# EAGLE library part ICE40UL1K-SWG16ITR1K (library FPGA)
UltraLite Series 1248 LUTs 10 I/O 56 kBit RAM 1.2V Surface Mount FPGA - WLCSP-16
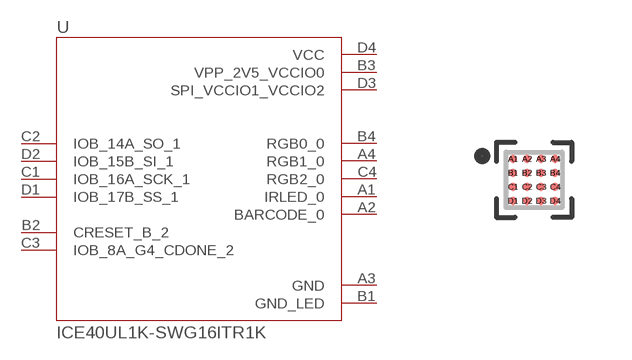
[diagram p2: symbol with the pads of BGA16N35P4X4_140X140X49N; footprint BGA16N35P4X4_140X140X49N]

Designator prefix U

## ICE40UL1K-SWG16ITR1K (AVAILABILITY: Unavailable; DESCRIPTION: UltraLite Series 1248 LUTs 10 I/O 56 kBit RAM 1.2V Surface Mount FPGA - WLCSP-16; MF: Lattice Semiconductor; MP: ICE40UL1K-SWG16ITR1K; PACKAGE: XFBGA-16 Lattice Semiconductor; PRICE: None)  [BGA16N35P4X4_140X140X49N]
A1  IRLED_0
A2  BARCODE_0
A3  GND  pwr
A4  RGB1_0
B1  GND_LED  pwr
B2  CRESET_B_2  in
B3  VPP_2V5_VCCIO0  pwr
B4  RGB0_0
C1  IOB_16A_SCK_1
C2  IOB_14A_SO_1
C3  IOB_8A_G4_CDONE_2
C4  RGB2_0
D1  IOB_17B_SS_1
D2  IOB_15B_SI_1
D3  SPI_VCCIO1_VCCIO2  pwr
D4  VCC  pwr

## Footprint BGA16N35P4X4_140X140X49N (pad centres in mm)
smd 0.2 x 0.2: A1 -0.525,0.525; A2 -0.175,0.525; A3 0.175,0.525; A4 0.525,0.525; B1 -0.525,0.175; B2 -0.175,0.175; B3 0.175,0.175; B4 0.525,0.175; C1 -0.525,-0.175; C2 -0.175,-0.175; C3 0.175,-0.175; C4 0.525,-0.175; D1 -0.525,-0.525; D2 -0.175,-0.525; D3 0.175,-0.525; D4 0.525,-0.525